# Altium schematic symbol library Lib.SchLib: 11 symbols
Pins are listed as number, name and electrical type; pins without a type are passive.

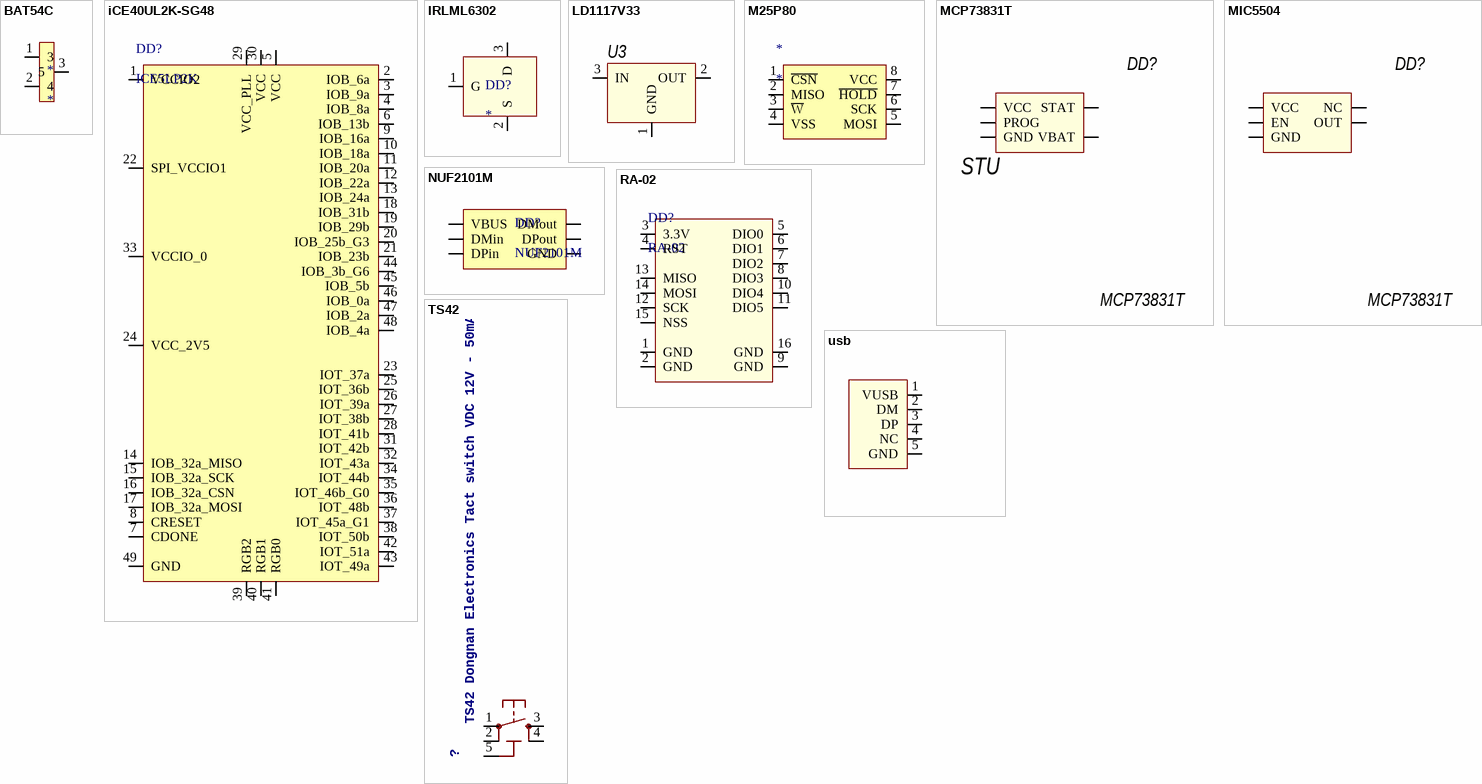
[diagram p0: symbols BAT54C to usb]

## BAT54C
designator *
footprint SOT95P245X110-3N (SOT23, 3-Leads, Body 2,90x2,45mm, Pitch 0,95mm, IPC Medium Density)
pins: 1 3, 2 4, 3 5

## iCE40UL2K-SG48
designator DD?, comment ICE5LP2K
iCE40UL2K-SG48
footprint QFN50P700X700X100_HS-49L (QFN, 48-Leads, Body 7.00x7.00mm, Pitch 0.50mm, Thermal Pad 5.40x5.40mm, IPC High Density)
pins: 1 VCCIO2 "Power Pin", 2 IOB_6a "GPIO", 3 IOB_9a "GPIO", 4 IOB_8a "GPIO", 5 VCC "Power Pin", 6 IOB_13b "GPIO", 7 CDONE "Config", 8 CRESET "Config", 9 IOB_16a "GPIO", 10 IOB_18a "GPIO", 11 IOB_20a "GPIO", 12 IOB_22a "GPIO", 13 IOB_24a "GPIO", 14 IOB_32a_MISO "Config", 15 IOB_32a_SCK "Config", 16 IOB_32a_CSN "Config", 17 IOB_32a_MOSI "Config", 18 IOB_31b "GPIO", 19 IOB_29b "GPIO", 20 IOB_25b_G3 "GPIO", 21 IOB_23b "GPIO", 22 SPI_VCCIO1 "Power Pin", 23 IOT_37a "GPIO", 24 VCC_2V5 "Power Pin", 25 IOT_36b "GPIO", 26 IOT_39a "GPIO", 27 IOT_38b "GPIO", 28 IOT_41b "GPIO", 29 VCC_PLL "Power Pin", 30 VCC "Power Pin", 31 IOT_42b "GPIO", 32 IOT_43a "GPIO", 33 VCCIO_0 "Power Pin", 34 IOT_44b "GPIO", 35 IOT_46b_G0 "GPIO", 36 IOT_48b "GPIO", 37 IOT_45a_G1 "GPIO", 38 IOT_50b "GPIO", 39 RGB2 "GPIO", 40 RGB1 "GPIO", 41 RGB0 "GPIO", 42 IOT_51a "GPIO", 43 IOT_49a "GPIO", 44 IOB_3b_G6 "GPIO", 45 IOB_5b "GPIO", 46 IOB_0a "GPIO", 47 IOB_2a "GPIO", 48 IOB_4a "GPIO", 49 GND "Power Pin"

## IRLML6302
designator DD?
footprint SOT95P245X110-3N (SOT23, 3-Leads, Body 2,90x2,45mm, Pitch 0,95mm, IPC Medium Density)
pins: 1 G, 2 S, 3 D

## LD1117V33
designator U3  (value not drawn)
LD1117V33 3.3V Voltage regulator
footprint SOT230P700X180-4L (SOT223, 4-Leads, Body 6.50x7.00mm (avg), Pitch 2.30mm, IPC High Density)
footprint SOT230P700X180-4L (SOT223, 4-Leads, Body 6.50x7.00mm (avg), Pitch 2.30mm, IPC High Density)
pins: 1 GND, 2 OUT, 3 IN

## M25P80
designator *
footprint SOIC127P600X175-8L (SOIC, 8-Leads, Body 4.85x3.90mm, Pitch 1.27mm, IPC High Density)
footprint SOIC127P830X200-8L (SOIC, 8-Leads, Body 6.05x5.62mm, Pitch 1.27mm, IPC High Density)
pins: 1 ~{CSN}, 2 MISO, 3 ~{W}, 4 VSS, 5 MOSI, 6 SCK, 7 ~{HOLD}, 8 VCC

## MCP73831T
designator DD?
MCP73831T Li-ion/Li-po charger; Manufacter: Microchip; Part Number: MCP73831/2  SOT-23-5
footprint SOT95P270X145-5N (SOT23, 5-Leads, Body 2,90x2,70mm, Pitch 0,95mm, IPC Medium Density)
pins: 1 STAT, 2 GND, 3 VBAT, 4 VCC, 5 PROG
text: STU

## MIC5504
designator DD?, comment MCP73831T
MCP73831T Li-ion/Li-po charger; Manufacter: Microchip; Part Number: MCP73831/2  SOT-23-5
footprint SOT95P270X145-5N (SOT23, 5-Leads, Body 2,90x2,70mm, Pitch 0,95mm, IPC Medium Density)
pins: 2 GND, 3 EN, 4 NC, 4 VCC, 5 OUT

## NUF2101M
designator DD?
footprint TSOP95P280X110-6M (TSOP, 6-Leads, Body 3,00x1,50mm, Pitch 0,95mm, IPC Low Density)
pins: 1 DPout, 2 GND, 3 DMout, 4 DMin, 5 VBUS, 6 DPin

## RA-02
designator DD?
footprint ESP_12 - duplicate (ESP-12 Wi-Fi Module by AI-Thinker)
pins: 1 GND, 2 GND, 3 3.3V, 4 RST, 5 DIO0, 6 DIO1, 7 DIO2, 8 DIO3, 9 GND, 10 DIO4, 11 DIO5, 12 SCK, 13 MISO, 14 MOSI, 15 NSS, 16 GND

## TS42
designator ?, comment TS42 Dongnan Electronics Tact switch VDC 12V - 50mA
footprint TS42
footprint TS42
pins: 1, 2, 3, 4, 5 5-GND (power)

## usb
designator XS?, comment uUSB
micro USB
footprint USB-MICROB
footprint Model Name (Model Description)
pins: 1 VUSB, 2 DM, 3 DP, 4 NC, 5 GND